# EAGLE library part LTC6957 (library linear-technology)
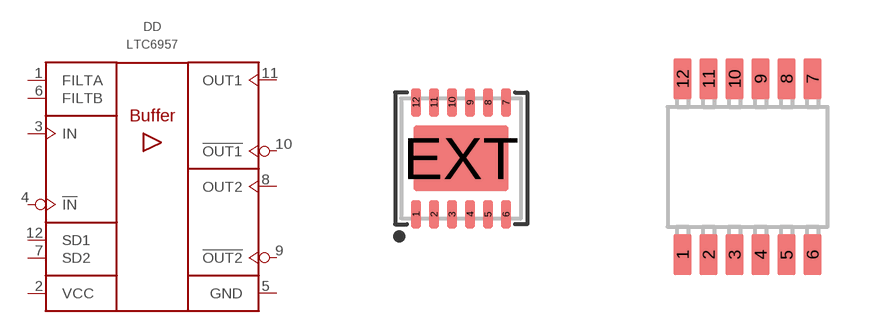
[diagram p4: symbol with the pads of DFN12; footprints DFN12, MSOP12]

Designator prefix DD

## LTC6957IDD-1#PBF  [DFN12]
1  FILTA  in
2  VCC  pwr
3  IN  in
4  !IN  in
5  GND  pwr
6  FILTB  in
7  SD2  in
8  OUT2  out
9  !OUT2  out
10  !OUT1  out
11  OUT1  out
12  SD1  in

## LTC6957IDD-2#PBF  [DFN12]
Pads as for DFN12

## LTC6957IMS-1#PBF  [MSOP12]
Pads as for DFN12

## LTC6957IMS-2#PBF  [MSOP12]
Pads as for DFN12

## LTC6957HMS-1#PBF  [MSOP12]
Pads as for DFN12

## LTC6957HMS-2#PBF  [MSOP12]
Pads as for DFN12

## Footprint DFN12 (pad centres in mm)
smd 0.25 x 0.7: 1 -1.125,-1.4; 2 -0.675,-1.4; 3 -0.225,-1.4; 4 0.225,-1.4; 5 0.675,-1.4; 6 1.125,-1.4; 7 1.125,1.4; 8 0.675,1.4; 9 0.225,1.4; 10 -0.225,1.4; 11 -0.675,1.4; 12 -1.125,1.4
smd 2.38 x 1.65: EXT 0,0

## Footprint MSOP12 (pad centres in mm)
smd 0.45 x 1: 1 -1.625,-2.205; 2 -0.975,-2.205; 3 -0.325,-2.205; 4 0.325,-2.205; 5 0.975,-2.205; 6 1.625,-2.205; 7 1.625,2.195; 8 0.975,2.195; 9 0.325,2.195; 10 -0.325,2.195; 11 -0.975,2.195; 12 -1.625,2.195